# Altium schematic symbol library pca10040.SCHLIB: 48 symbols
Pins are listed as number, name and electrical type; pins without a type are passive.

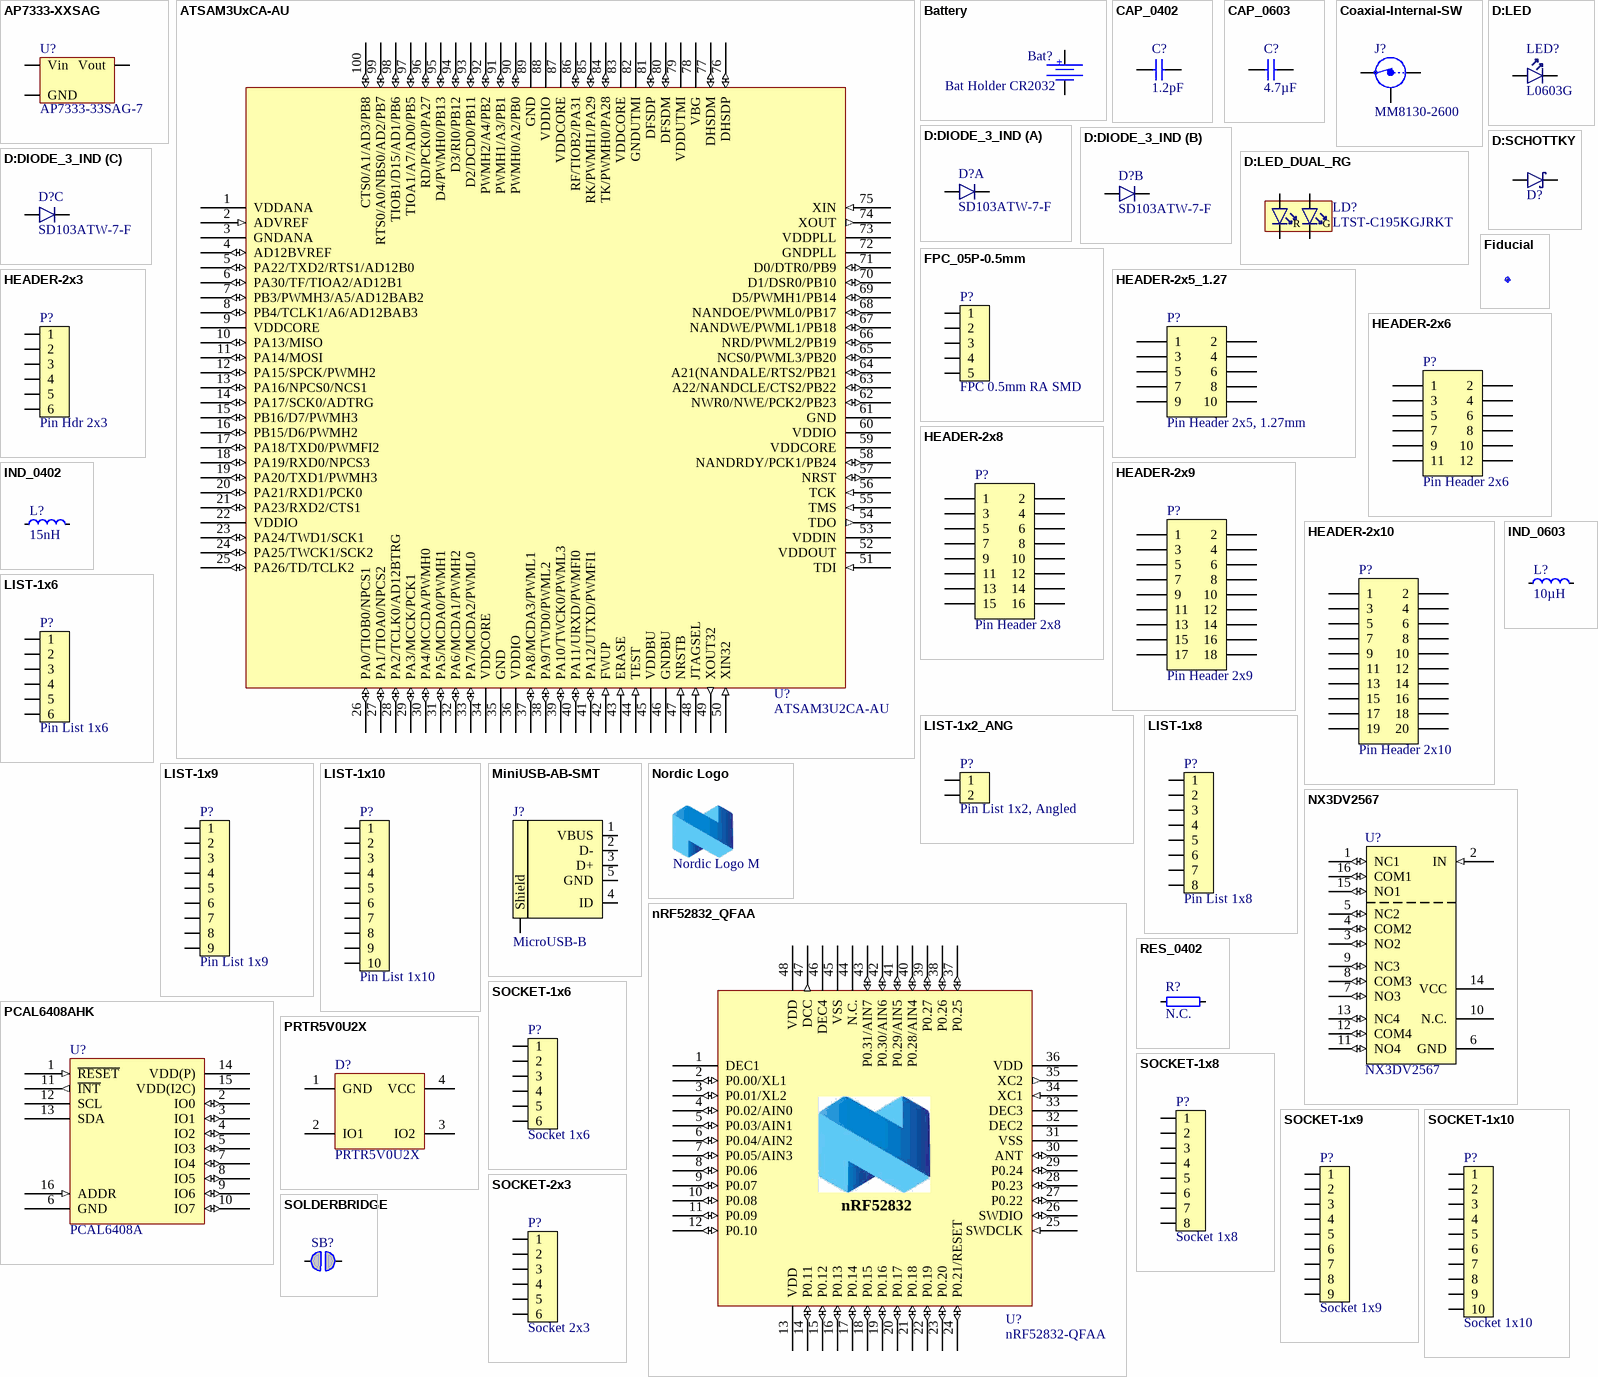
[diagram p0: symbols AP7333-XXSAG to SOLDERBRIDGE]

## AP7333-XXSAG
designator U?, comment AP7333-33SAG-7
300mA, Low Quiescent Current, Fast Transient Low Dropout Linear Regulator; Manufacturer: Diodes Incorporated; Artikkelnr Noca: 17039216; Artikkelnr Simpro: N.A.; Part Number: AP7333-33SAG-7; Manufacturer Part Number: AP7333-33SAG-7; Datasheet: http://www.diodes.com/datasheets/AP7333.pdf; LatestRevisionDate: 2012-06-15; Pin Count: 3; Publisher: Nordic Semiconductor; Published: 2012-06-15; Value: AP7333-33SAG-7; Note: *; Supplier: Digi-Key; Supplier part number: AP7333-33SAG-7DICT-ND; 2nd source Supplier: *; 2nd source part number: *; Footprint Doc: SOT-23-3
footprint SOT-23A
pins: 1 Vin, 2 Vout, 3 GND

## ATSAM3UxCA-AU
designator U?, comment ATSAM3U2CA-AU
IC MCU 32bit 128kB flash 100LQFP; Manufacturer: Atmel; 2nd source part number: 184-1662; Artikkelnr Noca: 15019073; Artikkelnr Simpro: N.A.; Part Number: ATSAM3U2CA-AU; Manufacturer Part Number: ATSAM3U2CA-AU; Datasheet: http://www.atmel.com/Images/6430s.pdf; LatestRevisionDate: 2012-06-01; Pin Count: 100; Publisher: Nordic Semiconductor; Published: 2012-06-01; Value: ATSAM3U2CA-AU; Note: *; Supplier: Digi-Key; Supplier part number: ATSAM3U2CA-AU-ND; 2nd source Supplier: Farnell; Footprint Doc: LQFP-100
footprint TSQFP50P1600X1600X160-100N
pins: 1 VDDANA (power), 2 ADVREF (in), 3 GNDANA (power), 4 AD12BVREF (io), 5 PA22/TXD2/RTS1/AD12B0 (io), 6 PA30/TF/TIOA2/AD12B1 (io), 7 PB3/PWMH3/A5/AD12BAB2 (io), 8 PB4/TCLK1/A6/AD12BAB3 (io), 9 VDDCORE (power), 10 PA13/MISO (io), 11 PA14/MOSI (io), 12 PA15/SPCK/PWMH2 (io), 13 PA16/NPCS0/NCS1 (io), 14 PA17/SCK0/ADTRG (io), 15 PB16/D7/PWMH3 (io), 16 PB15/D6/PWMH2 (io), 17 PA18/TXD0/PWMFI2 (io), 18 PA19/RXD0/NPCS3 (io), 19 PA20/TXD1/PWMH3 (io), 20 PA21/RXD1/PCK0 (io), 21 PA23/RXD2/CTS1 (io), 22 VDDIO (power), 23 PA24/TWD1/SCK1 (io), 24 PA25/TWCK1/SCK2 (io), 25 PA26/TD/TCLK2 (io), 26 PA0/TIOB0/NPCS1 (io), 27 PA1/TIOA0/NPCS2 (io), 28 PA2/TCLK0/AD12BTRG (io), 29 PA3/MCCK/PCK1 (io), 30 PA4/MCCDA/PWMH0 (io), 31 PA5/MCDA0/PWMH1 (io), 32 PA6/MCDA1/PWMH2 (io), 33 PA7/MCDA2/PWML0 (io), 34 VDDCORE (power), 35 GND (power), 36 VDDIO (power), 37 PA8/MCDA3/PWML1 (io), 38 PA9/TWD0/PWML2 (io), 39 PA10/TWCK0/PWML3 (io), 40 PA11/URXD/PWMFI0 (io), 41 PA12/UTXD/PWMFI1 (io), 42 FWUP (in), 43 ERASE (in), 44 TEST (in), 45 VDDBU (power), 46 GNDBU (power), 47 NRSTB (in), 48 JTAGSEL (in), 49 XOUT32 (out), 50 XIN32 (in), 51 TDI (in), 52 VDDOUT (power), 53 VDDIN (power), 54 TDO (out), 55 TMS (in), 56 TCK (in), 57 NRST (io), 58 NANDRDY/PCK1/PB24 (io), 59 VDDCORE (power), 60 VDDIO (power), 61 GND (power), 62 NWR0/NWE/PCK2/PB23 (io), 63 A22/NANDCLE/CTS2/PB22 (io), 64 A21(NANDALE/RTS2/PB21 (io), 65 NCS0/PWML3/PB20 (io), 66 NRD/PWML2/PB19 (io), 67 NANDWE/PWML1/PB18 (io), 68 NANDOE/PWML0/PB17 (io), 69 D5/PWMH1/PB14 (io), 70 D1/DSR0/PB10 (io), 71 D0/DTR0/PB9 (io), 72 GNDPLL (power), 73 VDDPLL (power), 74 XOUT (out), 75 XIN (in), 76 DHSDP (io), 77 DHSDM (io), 78 VBG (power), 79 VDDUTMI (power), 80 DFSDM (io), 81 DFSDP (io), 82 GNDUTMI (power), 83 VDDCORE (power), 84 TK/PWMH0/PA28 (io), 85 RK/PWMH1/PA29 (io), 86 RF/TIOB2/PA31 (io), 87 VDDCORE (power), 88 VDDIO (power), 89 GND (power), 90 PWMH0/A2/PB0 (io), 91 PWMH1/A3/PB1 (io), 92 PWMH2/A4/PB2 (io), 93 D2/DCD0/PB11 (io), 94 D3/RI0/PB12 (io), 95 D4/PWMH0/PB13 (io), 96 RD/PCK0/PA27 (io), 97 TIOA1/A7/AD0/PB5 (io), 98 TIOB1/D15/AD1/PB6 (io), 99 RTS0/A0/NBS0/AD2/PB7 (io), 100 CTS0/A1/AD3/PB8 (io)

## Battery
designator Bat?, comment Bat Holder CR2032
Bat Holder CR2032 SMD; Manufacturer: Comfortable; Manufacturer Part Number: BC-2001; 2nd source part number: 165-0693; Artikkelnr Noca: 55089011; Artikkelnr Simpro: N.A.; Part Number: Bat Holder CR2032 SMD; Datasheet: \\hizz\pro\app9717\Datasheet\connectores\Comfortable\BC-2001.pdf; Footprint Doc: CR2032_HOLDER_SMD; LatestRevisionDate: 2016-04-21; Pin Count: 3; Publisher: Nordic Semiconductor; Published: 2009-12-12; Value: Bat Holder CR2032; Note: Bat Holder CR2032; Supplier: Cabcon; Supplier part number: BC-2001/T & R; 2nd source Supplier: Farnell
footprint CR2032_HOLDER_SMD
pins: 1, 2
text: +

## CAP_0402
designator C?, comment 1.2pF
Capacitor, NP0, ±0.1pF; Part Number: C0402-1.2p; Note: 50V; Artikkelnr Noca: 20029157; Artikkelnr Simpro: N.A.; Manufacturer: *; Manufacturer Part Number: *; Datasheet: *; LatestRevisionDate: 2011-05-11; Pin Count: 2; Publisher: Nordic Semiconductor; Published: 2009-05-08; Value: 1.2pF; Supplier: *; Supplier part number: *; 2nd source Supplier: *; 2nd source part number: *; Footprint Doc: 0402
footprint CAPC1005X04L
pins: 1, 2

## CAP_0603
designator C?, comment 4.7µF
Capacitor, X5R, ±10%; Part Number: C0603-4µ7; Note: 6.3V; Artikkelnr Noca: 20069060; Artikkelnr Simpro: N.A.; Manufacturer: *; Manufacturer Part Number: *; Datasheet: *; LatestRevisionDate: 2009-11-23; Pin Count: 2; Publisher: Nordic Semiconductor; Published: 2009-05-08; Value: 4.7µF; Supplier: *; Supplier part number: *; 2nd source Supplier: *; 2nd source part number: *; Footprint Doc: 0603
footprint CAPC1608X06L
pins: 1, 2

## Coaxial-Internal-SW
designator J?, comment MM8130-2600
Coaxial Connector with Switch; Manufacturer: Murata; 2nd source part number: 81-MM8130-2600RA2; Artikkelnr Noca: 55029011; Artikkelnr Simpro: N.A.; Part Number: MM8130-2600; Manufacturer Part Number: MM8130-2600; Datasheet: http://www.murata.com/products/catalog/pdf/o33e.pdf; LatestRevisionDate: 2014-04-24; Pin Count: 3; Publisher: Nordic Semiconductor; Published: 2014-04-24; Value: MM8130-2600; Note: *; Supplier: Digi-Key; Supplier part number: 490-4981-1-ND; 2nd source Supplier: Mouser; Footprint Doc: COAXIAL-SWF
footprint COAXIAL-SWF
pins: 1 IN, 2 Shield, 3 OUT

## D:DIODE_3_IND
designator D?, comment SD103ATW-7-F
Surface Mount Schottky Barrier Diode Array; Manufacturer: Diodes Incorporated; 2nd source part number: 177-3507; Artikkelnr Noca: 10029109; Artikkelnr Simpro: N.A.; Part Number: SD103ATW-7-F; Manufacturer Part Number: SD103ATW-7-F; Datasheet: http://www.diodes.com/datasheets/ds30374.pdf; LatestRevisionDate: 2012-06-15; Publisher: Nordic Semiconductor; Published: 2012-06-15; Value: SD103ATW-7-F; Note: *; Supplier: Digi-Key; Supplier part number: SD103ATW-FDITR-ND; 2nd source Supplier: Farnell; Footprint Doc: SOT-363
footprint SOT-363
part A pins: 1 C1, 6 A1
part B pins: 2 C2, 5 A2
part C pins: 3 C3, 4 A3

## D:LED
designator LED?, comment L0603G
LED SMARTLED GREEN 570NM 0603; Part Number: LG L29K Smartled Green; Manufacturer: Multicomp; Manufacturer Part Number: LG L29K-G2J1-24-Z; Note: 2,24..5.6 mcd, Vfmin=1.7V; Artikkelnr Noca: N.A.; Datasheet: http://www.osram-os.com/Graphics/XPic2/00077107_0.pdf; Footprint Doc: 0603; LatestRevisionDate: 2014-10-28; Pin Count: 2; Publisher: Nordic Semiconductor; Published: 2014-10-28; Value: L0603G; Supplier: Digi-Key; Supplier part number: 475-2709-1-ND; 2nd source Supplier: *; 2nd source part number: *; Artikkelnr Simpro: N.A.
footprint LED_0603_G
pins: 1 C, 2 A

## D:LED_DUAL_RG
designator LD?, comment LTST-C195KGJRKT
Ultra bright AlInGaP Bi-Color LED; Manufacturer: Lite-On Inc; 2nd source part number: 859-LTST-C195KGJRKT; Artikkelnr Noca: 13019145; Artikkelnr Simpro: N.A.; Part Number: LTST-C195KGJRKT; Manufacturer Part Number: LTST-C195KGJRKT; Datasheet: http://media.digikey.com/pdf/Data%20Sheets/Lite-On%20PDFs/LTST-C195KGJRKT.pdf; LatestRevisionDate: 2013-02-11; Pin Count: 4; Publisher: Nordic Semiconductor; Published: 2012-07-05; Value: LTST-C195KGJRKT; Note: *; Supplier: Digi-Key; Supplier part number: 160-1452-1-ND; 2nd source Supplier: Mouser; Footprint Doc: LED_DUAL_0606
footprint LED_DUAL_0606
pins: 1 A2, 2 A1, 3 C2, 4 C1
text: R; G

## D:SCHOTTKY
designator D?, comment 1PS79SB30.115  (value not drawn)
Diode Schottky Vf=0.38, Vr=40V, If=200mA, Ir=500nA; Manufacturer: NXP; Artikkelnr Noca: N.A.; Part Number: 1PS79SB30.115; Manufacturer Part Number: 1PS79SB30.115; Datasheet: http://www.nxp.com/documents/data_sheet/1PS79SB30.pdf; Footprint Doc: SOD-523; LatestRevisionDate: 2014-09-24; Pin Count: 2; Publisher: Nordic Semiconductor; Published: 2014-09-24; Value: 1PS79SB30.115; Note: *; Supplier: Digi-Key; Supplier part number: 568-5973-1-ND; 2nd source Supplier: *; 2nd source part number: *; Artikkelnr Simpro: N.A.
footprint SOD-523
pins: 1 A, 3 C

## Fiducial
designator Fid?, comment Fiducial mark  (value not drawn)
Part Number: Fid-Mark; Artikkelnr Noca: N.A.; Manufacturer: *; Manufacturer Part Number: *; Datasheet: *; LatestRevisionDate: 2009-12-12; Pin Count: 1; Publisher: Nordic Semiconductor; Published: 2009-12-12; Value: *; Note: *; Supplier: *; Supplier part number: *; 2nd source Supplier: *; 2nd source part number: *; Footprint Doc: Fiducial; Artikkelnr Simpro: N.A.
footprint Fiducial

## FPC_05P-0.5mm
designator P?, comment FPC 0.5mm RA SMD
0.5mm FPC, 5P,Right Angle SMT,Double Contact,H=1.2mm,White, Tin plated; Part Number: FPC_05P-0.5mm-RA-SMD; Manufacturer: W-CON; Manufacturer Part Number: 5141-05RZDNWR01; 2nd source part number: WM9836CT-ND; Artikkelnr Noca: 55010020; Artikkelnr Simpro: N.A.; Datasheet: \\hizz\pro\app9717\Datasheet\connectores\W-CON\5141-XXRZDNXX0X.pdf; Footprint Doc: FPC_05P-0.5mm-RA-SMD; LatestRevisionDate: 2016-04-21; Pin Count: 7; Publisher: Nordic Semiconductor; Published: 2015-06-22; Value: FPC 0.5mm RA SMD; Note: *; Supplier: Cabcon; Supplier part number: 5141-05RZDNWR01; 2nd source Supplier: Digi-Key
footprint FPC_05P-0.5mm-RA-SMD
pins: 1, 2, 3 (power), 4 (power), 5 (power)

## HEADER-2x3
designator P?, comment Pin Hdr 2x3
Pin Header 2x3, 2.54mm (100mil) SMD; Part Number: Pin Header 2x3 SMD; Manufacturer: WCON; Manufacturer Part Number: 1125-1203S0M116R1; 2nd source part number: TSM-103-01-L-DV; Artikkelnr Noca: 55010007; Artikkelnr Simpro: N.A.; Datasheet: \\hizz\pro\app9717\Datasheet\connectores\W-CON\1125-12XXXXMXXXXX.PDF; Footprint Doc: HDR_2x3-SMD; LatestRevisionDate: 2016-01-22; Pin Count: 6; Publisher: Nordic Semiconductor; Published: 2016-01-22; Value: Pin Hdr 2x3; Note: SMD; Supplier: Cabcon; Supplier part number: 1125-1203S0M116R1; 2nd source Supplier: Samtec
footprint HDR_2x3-SMD
pins: 1, 2, 3, 4, 5, 6

## HEADER-2x5_1.27
designator P?, comment Pin Header 2x5, 1.27mm
Pin Header 2x5, 1.27mm (50mil), SMD, Keying Shroud; Part Number: Pin Header 2x5 SMD, 1.27mm, KS; Manufacturer: WCON; Manufacturer Part Number: 3132-10MS0BK00R1; 2nd source part number: FTSH-105-01-F-DV-K; Artikkelnr Noca: 55010009; Artikkelnr Simpro: N.A.; Datasheet: \\hizz\pro\app9717\Datasheet\connectores\W-CON\3132-XXMXXBK00XX.pdf; Footprint Doc: HDR_2x5-SMD-1.27mm; LatestRevisionDate: 2016-04-21; Pin Count: 10; Publisher: Nordic Semiconductor; Published: 2016-01-22; Value: Pin Header 2x5, 1.27mm; Note: *; Supplier: Cabcon; Supplier part number: 3132-10MS0BK00R1; 2nd source Supplier: Samtec
footprint HDR_2x5-SMD-1.27mm-K
pins: 1, 2, 3, 4, 5, 6, 7, 8, 9, 10

## HEADER-2x6
designator P?, comment Pin Header 2x6
Pin Header 2x6, 2.54mm (100mil); Note: Not mounted; Artikkelnr Noca: N.A.; Part Number: Pin Header 2x6; Manufacturer: *; Manufacturer Part Number: *; Datasheet: *; Footprint Doc: HDR_2x6; LatestRevisionDate: 2014-07-04; Pin Count: 12; Publisher: Nordic Semiconductor; Published: 2009-12-12; Value: Pin Header 2x6; Supplier: *; Supplier part number: *; 2nd source Supplier: *; 2nd source part number: *; Artikkelnr Simpro: N.A.
footprint HDR_2x6
pins: 1, 2, 3, 4, 5, 6, 7, 8, 9, 10, 11, 12

## HEADER-2x8
designator P?, comment Pin Header 2x8
Pin Header 2x8, 2.54mm (100mil); Note: Not mounted; Artikkelnr Noca: N.A.; Part Number: Pin Header 2x8; Manufacturer: *; Manufacturer Part Number: *; Datasheet: *; Footprint Doc: HDR_2x8; LatestRevisionDate: 2009-12-12; Pin Count: 16; Publisher: Nordic Semiconductor; Published: 2009-12-12; Value: Pin Header 2x8; Supplier: *; Supplier part number: *; 2nd source Supplier: *; 2nd source part number: *; Artikkelnr Simpro: N.A.
footprint HDR_2x8
pins: 1, 2, 3, 4, 5, 6, 7, 8, 9, 10, 11, 12, 13, 14, 15, 16

## HEADER-2x9
designator P?, comment Pin Header 2x9
Pin Header 2x9, 2.54mm (100mil); Artikkelnr Noca: N.A.; Part Number: Pin Header 2x9; Manufacturer: *; Manufacturer Part Number: *; Datasheet: *; Footprint Doc: HDR_2x9; LatestRevisionDate: 2011-07-06; Pin Count: 18; Publisher: Nordic Semiconductor; Published: 2011-07-06; Value: Pin Header 2x9; Note: *; Supplier: *; Supplier part number: *; 2nd source Supplier: *; 2nd source part number: *; Artikkelnr Simpro: N.A.
footprint HDR_2x9
pins: 1, 2, 3, 4, 5, 6, 7, 8, 9, 10, 11, 12, 13, 14, 15, 16, 17, 18

## HEADER-2x10
designator P?, comment Pin Header 2x10
Pin Header 2x10, 2.54mm (100mil); Note: Not mounted; Artikkelnr Noca: N.A.; Part Number: Pin Header 2x10; Manufacturer: *; Manufacturer Part Number: *; Datasheet: *; Footprint Doc: HDR_2x10; LatestRevisionDate: 2014-07-04; Pin Count: 20; Publisher: Nordic Semiconductor; Published: 2009-12-12; Value: Pin Header 2x10; Supplier: *; Supplier part number: *; 2nd source Supplier: *; 2nd source part number: *; Artikkelnr Simpro: N.A.
footprint HDR_2x10
pins: 1, 2, 3, 4, 5, 6, 7, 8, 9, 10, 11, 12, 13, 14, 15, 16, 17, 18, 19, 20

## IND_0402
designator L?, comment 15nH
Inductor, 320mA, ±5%; Part Number: L0402-15n; Manufacturer: Taiyo Yuden; Manufacturer Part Number: HK100515NJ-T; 2nd source part number: 658-1328; Note: High frequency chip inductor ±10%; Artikkelnr Noca: 33029323; Artikkelnr Simpro: N.A.; LatestRevisionDate: 2012-09-19; Pin Count: 2; Publisher: Nordic Semiconductor; Published: 2010-07-12; Value: 15nH; Supplier: Digi-Key; Datasheet: http://www.yuden.co.jp/productdata/catalog/en/mlci04_e.pdf; Supplier part number: 587-1521-1-ND; 2nd source Supplier: Farnell; Footprint Doc: 0402
footprint INDC1005X04L
pins: 1, 2

## IND_0603
designator L?, comment 10µH
Inductor, 80mA, ±10%; Part Number: L0603-10µ; Manufacturer: Taiyo Yuden; Manufacturer Part Number: LBMF1608T100K; 2nd source part number: 178-6105; Note: LBMF1608T100K 10µH 80mA 0603; Artikkelnr Noca: 33029314; Artikkelnr Simpro: N.A.; Datasheet: http://www.yuden.co.jp/ut/product/pdf/elb2_e.pdf; LatestRevisionDate: 2012-09-19; Pin Count: 2; Publisher: Nordic Semiconductor; Published: 2010-02-24; Value: 10µH; Supplier: Digi-Key; Supplier part number: 587-1714-1-ND; 2nd source Supplier: Farnell; Footprint Doc: 0603
footprint INDC1608X06L
pins: 1, 2

## LIST-1x2_ANG
designator P?, comment Pin List 1x2, Angled
Pin List 1x2, 2.54mm (100mil), Right Angled, SMD; Part Number: Pin List Ang 1x2 SMD, 2.54mm; Manufacturer: W-CON; Manufacturer Part Number: 1125B-1102S0ZZ135R1; 2nd source part number: TSM-102-01-L-SH-A; Artikkelnr Noca: 55010023; Artikkelnr Simpro: N.A.; Datasheet: \\hizz\pro\app9717\Datasheet\connectores\W-CON\1125B-11XXXXZXXXXX.pdf; Footprint Doc: LIST_ANG_1x2-SMD-2.54MM; LatestRevisionDate: 2016-01-22; Pin Count: 2; Publisher: Nordic Semiconductor; Published: 2016-01-22; Value: Pin List 1x2, Angled; Note: *; Supplier: Cabcon; Supplier part number: 1125B-1102S0ZZ135R1; 2nd source Supplier: Samtec
footprint LIST_ANG_1x2-SMD-2.54MM
pins: 1, 2

## LIST-1x6
designator P?, comment Pin List 1x6
Pin List 1x6, 2.54mm (100mil), SMD; Part Number: Pin List 1x6 SMD; Note: Not mounted; Artikkelnr Noca: 55019252; Artikkelnr Simpro: N.A.; Manufacturer: *; Manufacturer Part Number: *; Datasheet: *; LatestRevisionDate: 2013-08-27; Pin Count: 6; Publisher: Nordic Semiconductor; Published: 2013-08-27; Value: Pin List 1x6; Supplier: Samtec; Supplier part number: TSM-106-01-L-SV-P-TR; 2nd source Supplier: *; 2nd source part number: *; Footprint Doc: LIST_1x6_SMD
footprint LIST_1x6_SMD
pins: 1, 2, 3 (power), 4 (power), 5 (power), 6 (power)

## LIST-1x8
designator P?, comment Pin List 1x8
Pin List 1x8, 2.54mm (100mil), SMD; Part Number: Pin List 1x8 SMD; Note: Not mounted; Artikkelnr Noca: 55019253; Artikkelnr Simpro: N.A.; Manufacturer: *; Manufacturer Part Number: *; Datasheet: *; LatestRevisionDate: 2013-08-27; Publisher: Nordic Semiconductor; Published: 2013-08-27; Value: Pin List 1x8; Supplier: Samtec; Supplier part number: TSM-108-01-L-SV-P-TR; 2nd source Supplier: *; 2nd source part number: *; Pin Count: 8; Footprint Doc: LIST_1x8_SMD
footprint LIST_1x8_SMD
pins: 1, 2, 3 (power), 4 (power), 5 (power), 6 (power), 7 (power), 8 (power)

## LIST-1x9
designator P?, comment Pin List 1x9
Pin List 1x9, 2.54mm (100mil), SMD; Part Number: Pin List 1x9 SMD; Artikkelnr Noca: N.A.; Manufacturer: *; Manufacturer Part Number: *; Datasheet: *; Footprint Doc: LIST_1x9_SMD; LatestRevisionDate: 2014-06-10; Pin Count: 9; Publisher: Nordic Semiconductor; Published: 2014-06-10; Value: Pin List 1x9; Note: *; Supplier: Samtec; Supplier part number: TSM-109-01-L-SV-P-TR; 2nd source Supplier: *; 2nd source part number: *; Artikkelnr Simpro: N.A.
footprint LIST_1x9_SMD
pins: 1, 2, 3 (power), 4 (power), 5 (power), 6 (power), 7 (power), 8 (power), 9 (power)

## LIST-1x10
designator P?, comment Pin List 1x10
Pin List 1x10, 2.54mm (100mil), SMD; Part Number: Pin List 1x10 SMD; Note: Not mounted; Artikkelnr Noca: 55019254; Artikkelnr Simpro: N.A.; Manufacturer: *; Manufacturer Part Number: *; Datasheet: *; LatestRevisionDate: 2013-08-27; Publisher: Nordic Semiconductor; Published: 2013-08-27; Value: Pin List 1x10; Supplier: Samtec; Supplier part number: TSM-110-01-L-SV-P-TR; 2nd source Supplier: *; 2nd source part number: *; Pin Count: 10; Footprint Doc: LIST_1x10_SMD
footprint LIST_1x10_SMD
pins: 1, 2, 3, 4, 5, 6, 7, 8, 9, 10

## MiniUSB-AB-SMT
designator J?, comment MicroUSB-B
MicroUSB-B-SMT; Part Number: USB-Micro-B-RA-SMD-PiP; Manufacturer: Allen Creations Corp.; Manufacturer Part Number: AJU55-BS2111-L; 2nd source part number: 609-4616-1-ND; Artikkelnr Noca: 55029020; Artikkelnr Simpro: N.A.; Datasheet: \\hizz\pro\app9717\Datasheet\connectores\Allen Creations Corp\AJU-211.pdf; Footprint Doc: USB-Micro-B-RA-SMD-PiP; LatestRevisionDate: 2016-04-21; Pin Count: 5; Publisher: Nordic Semiconductor; Published: 2014-10-07; Value: MicroUSB-B; Note: *; Supplier: Cabcon; Supplier part number: AJU55-BS2111-L; 2nd source Supplier: Digi-Key
footprint USB-Micro-B-RA-SMD-PiP
pins: 1 VBUS (power), 2 D-, 3 D+, 4 ID, 5 GND (power), 6 Shield (power)

## Nordic Logo
designator LOGO?, comment Nordic Logo M  (no BOM)
Nordic Logo, medium size; Artikkelnr Noca: N.A.; Part Number: Nordic Logo M; Manufacturer: *; Manufacturer Part Number: *; Datasheet: *; LatestRevisionDate: 2010-02-18; Publisher: Nordic Semiconductor; Value: Nordic Logo M; Note: *; Supplier: *; Supplier part number: *; 2nd source Supplier: *; 2nd source part number: *; Pin Count: 2; Published: 2010-02-18; Footprint Doc: NORDIC_LOGO_M; Artikkelnr Simpro: N.A.
footprint NORDIC_LOGO_M

## nRF52832_QFAA
designator U?, comment nRF52832-QFAA
Multi-protocol Bluetooth Low Energy and 2.4GHz proprietary system-on-chip; Manufacturer: Nordic Semiconductor; Artikkelnr Noca: N.A.; Part Number: nRF52832-QFAA; Manufacturer Part Number: nRF52832-QFAA; Datasheet: *; LatestRevisionDate: 2014-11-26; Pin Count: 48; Publisher: Nordic Semiconductor; Published: 2014-11-26; Value: nRF52832-QFAA; Note: *; Supplier: Nordic Semiconductor; Supplier part number: *; 2nd source Supplier: *; 2nd source part number: *; Footprint Doc: QFN-48; Artikkelnr Simpro: N.A.
footprint QFN40P600X600X90-48N
pins: 1 DEC1 (power), 2 P0.00/XL1 (io), 3 P0.01/XL2 (io), 4 P0.02/AIN0 (io), 5 P0.03/AIN1 (io), 6 P0.04/AIN2 (io), 7 P0.05/AIN3 (io), 8 P0.06 (io), 9 P0.07 (io), 10 P0.08 (io), 11 P0.09 (io), 12 P0.10 (io), 13 VDD (power), 14 P0.11 (io), 15 P0.12 (io), 16 P0.13 (io), 17 P0.14 (io), 18 P0.15 (io), 19 P0.16 (io), 20 P0.17 (io), 21 P0.18 (io), 22 P0.19 (io), 23 P0.20 (io), 24 P0.21/RESET (io), 25 SWDCLK (in), 26 SWDIO (io), 27 P0.22 (io), 28 P0.23 (io), 29 P0.24 (io), 30 ANT (io), 31 VSS (power), 32 DEC2 (power), 33 DEC3 (power), 34 XC1 (in), 35 XC2 (out), 36 VDD (power), 37 P0.25 (io), 38 P0.26 (io), 39 P0.27 (io), 40 P0.28/AIN4 (io), 41 P0.29/AIN5 (io), 42 P0.30/AIN6 (io), 43 P0.31/AIN7 (io), 44 N.C. (power), 45 VSS (power), 46 DEC4 (power), 47 DCC (out), 48 VDD (power), 49 GND (power) hidden to GND
text: nRF52832

## NX3DV2567
designator U?
Low-ohmic four-pole double-throw analog switch; Part Number: NX3DV2567GU; Manufacturer: NXP Semiconductors; 2nd source part number: 771-NX3DV2567GU115; Artikkelnr Noca: N.A.; Manufacturer Part Number: NX3DV2567GU; Datasheet: http://www.nxp.com/documents/data_sheet/NX3DV2567.pdf; Footprint Doc: XQFN-16; LatestRevisionDate: 2015-02-17; Pin Count: 16; Publisher: Nordic Semiconductor; Published: 2015-02-17; Value: NX3DV2567; Note: *; Supplier: Digi-Key; Supplier part number: 568-5206-1-ND; 2nd source Supplier: Mouser; Artikkelnr Simpro: N.A.
footprint XQFN40P180X260X50-16N
pins: 1 NC1 (io), 2 IN (in), 3 NO2 (io), 4 COM2 (io), 5 NC2 (io), 6 GND (power), 7 NO3 (io), 8 COM3 (io), 9 NC3 (io), 10 N.C., 11 NO4 (io), 12 COM4 (io), 13 NC4 (io), 14 VCC (power), 15 NO1 (io), 16 COM1 (io)

## PCAL6408AHK
designator U?, comment PCAL6408A
8-bit I2C-bus I/O expander with interrupt output; Part Number: PCAL6408AHK; Manufacturer: NXP Semiconductors; 2nd source part number: 771-PCAL6408AHKX; Artikkelnr Noca: N.A.; Manufacturer Part Number: PCAL6408AHK; Datasheet: http://www.nxp.com/documents/data_sheet/PCAL6408A.pdf; Footprint Doc: XQFN-16; LatestRevisionDate: 2015-04-29; Pin Count: 16; Publisher: Nordic Semiconductor; Published: 2015-04-29; Value: PCAL6408A; Note: *; Supplier: Digi-Key; Supplier part number: 568-9944-2-ND; 2nd source Supplier: Mouser; Artikkelnr Simpro: N.A.
footprint XQFN40P180X260X50-16N
pins: 1 ~{RESET} (in), 2 IO0 (io), 3 IO1 (io), 4 IO2 (io), 5 IO3 (io), 6 GND (power), 7 IO4 (io), 8 IO5 (io), 9 IO6 (io), 10 IO7 (io), 11 ~{INT} (out), 12 SCL (power), 13 SDA, 14 VDD(P) (power) "VDD 2.3V - 5.5V", 15 VDD(I2C) (power), 16 ADDR (in)

## PRTR5V0U2X
designator D?
Ultra low capacitance double rail-to-rail ESD protection diode; Manufacturer: NXP; 2nd source part number: 152-4157; Artikkelnr Noca: 10069015; Artikkelnr Simpro: N.A.; Part Number: PRTR5V0U2X; Manufacturer Part Number: PRTR5V0U2X; Datasheet: http://www.farnell.com/datasheets/109718.pdf; LatestRevisionDate: 2012-06-11; Publisher: Nordic Semiconductor; Published: 2012-06-11; Value: PRTR5V0U2X; Note: *; Supplier: Digi-Key; Supplier part number: 568-4140-1-ND; 2nd source Supplier: Farnell; Footprint Doc: SOT-143B
footprint SOT190P230X110-4L
pins: 1 GND, 2 IO1, 3 IO2, 4 VCC

## RES_0402
designator R?, comment N.C.
Not mounted; Part Number: R0402-N.C.; Note: Chip Res; Artikkelnr Noca: N.A.; Manufacturer: *; Manufacturer Part Number: *; Datasheet: *; Footprint Doc: 0402; LatestRevisionDate: 2009-05-08; Pin Count: 2; Publisher: Nordic Semiconductor; Published: 2009-05-08; Value: N.C.; Supplier: *; Supplier part number: *; 2nd source Supplier: *; 2nd source part number: *; Artikkelnr Simpro: N.A.
footprint RESC1005X04L
pins: 1, 2

## SOCKET-1x6
designator P?, comment Socket 1x6
Socket 1x6, 2.54mm (100mil), SMD; Part Number: Socket 1x6 SMD; Manufacturer: WCON; Manufacturer Part Number: 2171-106MS0CUNR1; 2nd source part number: SSM-106-F-SV-P-TR; Artikkelnr Noca: 55030001; Artikkelnr Simpro: N.A.; Datasheet: *; Footprint Doc: SOCKET_1x6_SMD; LatestRevisionDate: 2016-01-22; Pin Count: 6; Publisher: Nordic Semiconductor; Published: 2016-01-22; Value: Socket 1x6; Note: *; Supplier: Cabcon; Supplier part number: 2171-106MS0CUNR1; 2nd source Supplier: Samtec
footprint SOCKET_1x6_SMD
pins: 1, 2, 3, 4, 5, 6

## SOCKET-1x8
designator P?, comment Socket 1x8
Socket 1x8, 2.54mm (100mil), SMD; Part Number: Socket 1x8 SMD; Manufacturer: WCON; Manufacturer Part Number: 2171-108MS0CUNR1; 2nd source part number: SSM-108-F-SV-P-TR; Artikkelnr Noca: 55030002; Artikkelnr Simpro: N.A.; Datasheet: *; Footprint Doc: SOCKET_1x8_SMD; LatestRevisionDate: 2016-01-22; Pin Count: 8; Publisher: Nordic Semiconductor; Published: 2016-01-22; Value: Socket 1x8; Note: *; Supplier: Cabcon; Supplier part number: 2171-108MS0CUNR1; 2nd source Supplier: Samtec
footprint SOCKET_1x8_SMD
pins: 1, 2, 3, 4, 5, 6, 7, 8

## SOCKET-1x9
designator P?, comment Socket 1x9
Socket 1x9, 2.54mm (100mil), SMD; Part Number: Socket 1x9 SMD; Manufacturer: WCON; Manufacturer Part Number: 2171-109MS0CUNR1; 2nd source part number: SSM-109-L-SV; Artikkelnr Noca: 55030003; Artikkelnr Simpro: N.A.; Datasheet: *; Footprint Doc: SOCKET_1x9_SMD; LatestRevisionDate: 2016-01-22; Pin Count: 9; Publisher: Nordic Semiconductor; Published: 2016-01-22; Value: Socket 1x9; Note: *; Supplier: Cabcon; Supplier part number: 2171-109MS0CUNR1; 2nd source Supplier: Samtec
footprint SOCKET_1x9_SMD
pins: 1, 2, 3 (power), 4 (power), 5 (power), 6 (power), 7 (power), 8 (power), 9 (power)

## SOCKET-1x10
designator P?, comment Socket 1x10
Socket 1x10, 2.54mm (100mil), SMD; Part Number: Socket 1x10 SMD; Manufacturer: WCON; Manufacturer Part Number: 2171-110MS0CUNR1; 2nd source part number: SSM-110-F-SV-P-TR; Artikkelnr Noca: 55030004; Artikkelnr Simpro: N.A.; Datasheet: *; Footprint Doc: SOCKET_1x10_SMD; LatestRevisionDate: 2016-01-22; Pin Count: 10; Publisher: Nordic Semiconductor; Published: 2016-01-22; Value: Socket 1x10; Note: *; Supplier: Cabcon; Supplier part number: 2171-110MS0CUNR1; 2nd source Supplier: Samtec
footprint SOCKET_1x10_SMD
pins: 1, 2, 3, 4, 5, 6, 7, 8, 9, 10

## SOCKET-2x3
designator P?, comment Socket 2x3
Socket 2x3, 2.54mm (100mil), SMD; Part Number: Socket 2x3 SMD Bottom; Manufacturer: Samtec; Manufacturer Part Number: SSM-103-F-DV-P-TR; 2nd source part number: S5712-ND; Note: Not mounted; Artikkelnr Noca: 55019255; Artikkelnr Simpro: N.A.; Datasheet: http://www.samtec.com/documents/webfiles/pdf/SSM_SM.PDF; LatestRevisionDate: 2014-06-10; Pin Count: 6; Publisher: Nordic Semiconductor; Published: 2014-06-10; Value: Socket 2x3; Supplier: Samtec; Supplier part number: SSM-103-F-DV-P-TR; 2nd source Supplier: Digi-Key; Footprint Doc: SOCKET_2x3_SMD-2.54mm-bottom
footprint SOCKET_2x3_SMD-2.54mm-bottom
pins: 1, 2, 3 (power), 4 (power), 5 (power), 6 (power)

## SOLDERBRIDGE
designator SB?, comment Solderbridge  (value not drawn)  (no BOM)
Artikkelnr Noca: N.A.; Part Number: Solderbridge; Manufacturer: *; Manufacturer Part Number: *; Datasheet: *; LatestRevisionDate: 2009-12-14; Pin Count: 2; Publisher: Nordic Semiconductor; Published: 2009-12-14; Value: Solderbridge; Note: *; Supplier: *; Supplier part number: *; 2nd source Supplier: *; 2nd source part number: *; Footprint Doc: Solderbridge; Artikkelnr Simpro: N.A.
footprint Solderbridge
pins: 1 0, 2 1

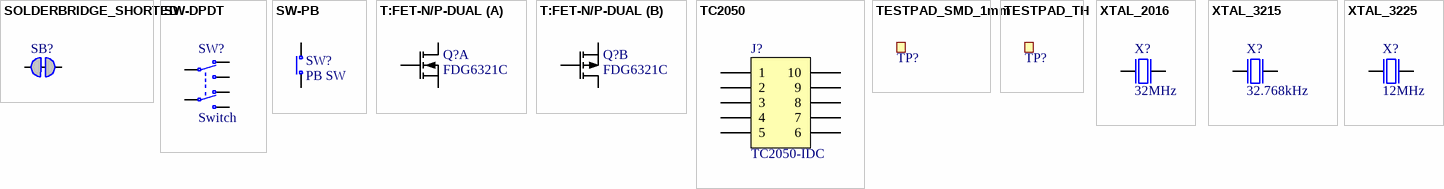
[diagram p1: symbols SOLDERBRIDGE_SHORTED to XTAL_3225]

## SOLDERBRIDGE_SHORTED
designator SB?, comment Solderbridge  (value not drawn)  (net tie, no BOM)
Shorted Solderbridge; Part Number: Solderbridge Shorted; Artikkelnr Noca: N.A.; Manufacturer: *; Manufacturer Part Number: *; Datasheet: *; LatestRevisionDate: 2012-08-07; Pin Count: 2; Publisher: Nordic Semiconductor; Published: 2012-08-07; Value: Solderbridge; Note: *; Supplier: *; Supplier part number: *; 2nd source Supplier: *; 2nd source part number: *; Footprint Doc: Solderbridge_Shorted; Artikkelnr Simpro: N.A.
footprint Solderbridge_Shorted
pins: 1 0, 2 1

## SW-DPDT
designator SW?, comment Switch
SMD slide Switch (ON-ON); Part Number: Switch-Slide-DPDT-8.5x3.6mm; Manufacturer: Dailywell; Manufacturer Part Number: SS206VM-G2-LLR-R; 2nd source part number: 401-2002-1-ND; Artikkelnr Noca: 50019107; Artikkelnr Simpro: N.A.; Datasheet: \\hizz\pro\app9717\Datasheet\switches\Daliywell\SS206VM-G2-LLR-R.pdf; Footprint Doc: Switch-Slide-DPDT-8.5x3.6mm; LatestRevisionDate: 2016-04-21; Pin Count: 6; Publisher: Nordic Semiconductor; Published: 2014-06-24; Value: Switch; Note: *; Supplier: Cabcon; Supplier part number: SS206VM-G2-LLR-R; 2nd source Supplier: Digi-Key
footprint Switch-Slide-DPDT-8.5x3.6mm
pins: 1 N.O-1, 2 COM-1, 3 N.C-1, 4 N.O-2, 5 COM-2, 6 N.C-2

## SW-PB
designator SW?, comment PB SW
Tactile Switch, SPNO, SMD, 160gf, 6.2x6.3x2.5mm; Part Number: Switch-PB-6.2x6.3mm-SMD; Manufacturer: Dailywell; Manufacturer Part Number: TS604VM1-025BR-R; 2nd source part number: 688-SKHUALE010; Artikkelnr Noca: 50019106; Artikkelnr Simpro: N.A.; Datasheet: \\hizz\pro\app9717\Datasheet\switches\Daliywell\TS604VM1-025BR-R.pdf; Footprint Doc: Switch-PB-6.2x6.3mm-SMD; LatestRevisionDate: 2016-04-21; Pin Count: 4; Publisher: Nordic Semiconductor; Published: 2010-02-01; Value: PB SW; Note: *; Supplier: Cabcon; Supplier part number: TS604VM1-025BR-R; 2nd source Supplier: Mouser
footprint Switch-PB-6.2x6.3mm-SMD
pins: 1 N.O, 2 COM

## T:FET-N/P-DUAL
designator Q?, comment FDG6321C
Fairchild, FDG6321C, Dual N & P Channel Digital FET; Part Number: FDG6321C_IPC; 2nd source part number: FDG6321CCT-ND; Artikkelnr Noca: 35029089; Artikkelnr Simpro: N.A.; Manufacturer: Fairchild; Manufacturer Part Number: FDG6321C; Datasheet: http://www.fairchildsemi.com/ds/FD/FDG6321C.pdf; LatestRevisionDate: 2011-07-04; Pin Count: 6; Publisher: Nordic Semiconductor; Published: 2012-07-04; Value: FDG6321C; Note: Dual N & P Channel Digital FET; Supplier: Farnell; Supplier part number: 170-0689; 2nd source Supplier: Digi-Key; Footprint Doc: SC70-6
footprint SOT65P210X100-6N
part A pins: 1 S1, 2 G1, 6 D1
part B pins: 3 D2, 4 S2, 5 G2

## TC2050
designator J?, comment TC2050-IDC  (no BOM)
CBL PLUG-OF-NAILS 10-PIN; Part Number: TC2050-IDC-NLFP; Manufacturer: Tag-Connect LLC; Artikkelnr Noca: N.A.; Manufacturer Part Number: TC2050-IDC-NLFP; Datasheet: http://www.tag-connect.com/Materials/TC2050-IDC%20Datasheet.pdf; LatestRevisionDate: 2012-11-21; Publisher: Nordic Semiconductor; Published: 2012-11-21; Value: TC2050-IDC; Supplier: Digi-Key; Supplier part number: TC2050-IDC-NL-ND; 2nd source Supplier: *; 2nd source part number: *; Pin Count: 10; Footprint Doc: TC2050-IDC-NLFP; Artikkelnr Simpro: N.A.
footprint TC2050-IDC-NLFP
pins: 1, 2, 3, 4, 5, 6, 7, 8, 9, 10

## TESTPAD_SMD_1mm
designator TP?, comment Ø1.0mm,SMD  (value not drawn)  (no BOM)
1.0mm circular SMD testpad; Part Number: TP_SMD_Ø1.0MM; Manufacturer: Nordic Semiconductor; Artikkelnr Noca: N.A.; Manufacturer Part Number: *; Datasheet: *; LatestRevisionDate: 2013-06-11; Pin Count: 1; Publisher: Nordic Semiconductor; Published: 2013-06-11; Value: Ø1.0mm,SMD; Note: *; Supplier: *; Supplier part number: *; 2nd source Supplier: *; 2nd source part number: *; Footprint Doc: TP_SMD_Ø1.0mm; Artikkelnr Simpro: N.A.
footprint TP_SMD_Ø1.0mm
pins: 1

## TESTPAD_TH
designator TP?, comment TP  (value not drawn)  (no BOM)
Testpoint, through hole; Part Number: Testpoint TH; Artikkelnr Noca: N.A.; Manufacturer: *; Manufacturer Part Number: *; Datasheet: *; Footprint Doc: TESTPAD-TH; LatestRevisionDate: 2009-12-12; Pin Count: 1; Publisher: Nordic Semiconductor; Published: 2009-12-12; Value: TP; Note: *; Supplier: *; Supplier part number: *; 2nd source Supplier: *; 2nd source part number: *; Artikkelnr Simpro: N.A.
footprint TESTPAD-TH
pins: 1

## XTAL_2016
designator X?, comment 32MHz
XTAL SMD 2016, 32MHz, Cl=8pF, Tol: ±10ppm, Stab: ±10ppm; Part Number: XTAL_SMD2016_32MHz_8pF_Epson; Manufacturer: Epson Toyocom; Manufacturer Part Number: Q22FA12800025; Note: XTAL SMD 32.000MHz; Artikkelnr Noca: N.A.; Datasheet: http://www.epsondevice.com/docs/qd/en/DownloadServlet?id=ID000449; LatestRevisionDate: 2014-11-27; Pin Count: 4; Publisher: Nordic Semiconductor; Published: 2012-03-09; Value: 32MHz; Supplier: Farnell; Supplier part number: 171-2806; 2nd source Supplier: *; 2nd source part number: *; Footprint Doc: XTAL_2016; Artikkelnr Simpro: N.A.
footprint BT-XTAL_2016
pins: 1 inp, 2 GND hidden to GND, 3 out, 4 GND hidden to GND

## XTAL_3215
designator X?, comment 32.768kHz
EPSON TOYOCOM - FC-135 32.768KHZ ±20PPM,9.0PF - CRYSTAL, SM, WATCH; Part Number: XTAL_FC-135 32.768k; 2nd source part number: 127-8037; Note: XTAL SMD 32.768kHz, 3215; Artikkelnr Noca: 22019091; Artikkelnr Simpro: N.A.; Manufacturer: Epson Toyocom; Manufacturer Part Number: FC-135 32.768KHZ ±20PPM,9.0PF; Datasheet: http://www.farnell.com/datasheets/57480.pdf; LatestRevisionDate: 2014-03-27; Pin Count: 2; Publisher: Nordic Semiconductor; Published: 2010-10-18; Value: 32.768kHz; Supplier: Digi-Key; Supplier part number: FC-135 32.7680KA-AC-ND; 2nd source Supplier: Farnell; Footprint Doc: XTAL_3215
footprint XTAL_3215
pins: 1 inp, 2 out

## XTAL_3225
designator X?, comment 12MHz
XTAL SMD 3225, 12MHz, 18pF, ±30ppm; Part Number: XTAL SMD 12MHz (3225); Manufacturer: TXC Corporation; Manufacturer Part Number: 7M-12.000MAAJ-T; 2nd source part number: 184-2056; Note: XTAL SMD 12.000MHz; Artikkelnr Noca: 22019166; Artikkelnr Simpro: N.A.; Datasheet: http://www.txccrystal.com/images/pdf/7m.pdf; LatestRevisionDate: 2010-08-31; Pin Count: 4; Publisher: Nordic Semiconductor; Published: 2010-08-31; Value: 12MHz; Supplier: Digi-Key; Supplier part number: 887-1121-1-ND; 2nd source Supplier: Farnell; Footprint Doc: BT-XTAL_3225
footprint BT-XTAL_3225
pins: 1 inp, 2 GND hidden to GND, 3 out, 4 GND hidden to GND